# Altium footprint library 107CKE100MLQ.PcbLib: 1 footprints
Each footprint in its own frame and in the unit in brackets; x right, y up, seen from the top. Pads: shape width x height; smd on the part's side, far side on the other; paste and mask are expansions set on the pad; w line width, h text height; cw(c..) or ccw(c..) is an arc to the next point about the centre after c.
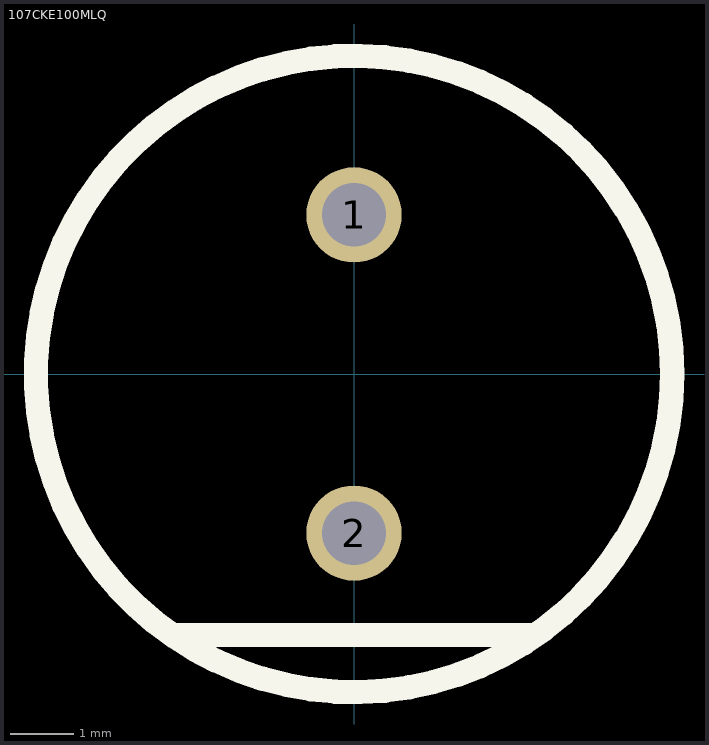
[diagram p0: the footprint, top view; thin cyan lines are the x and y axes]

## 107CKE100MLQ [mm]
pads (2):
  round 1.5 hole 1: 1(0,2.5) 2(0,-2.5)
Top Overlay:
  circle w0.381: c0,0 r5
  lines w0.381: -2.8,-4.1 2.8,-4.1
3D body "CAP_CKE100MLQ_ILC.step": height 17.52, standoff -4.37, extent -5.242,-5.229 5.242,5.285